# Altium integrated library DS1021-1X7SF162-B.IntLib: 1 symbol
Pins are listed as number, name and electrical type; pins without a type are passive.

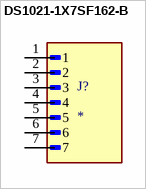
[diagram p0: symbol DS1021-1X7SF162-B]

## DS1021-1X7SF162-B
designator J?
Pin header; pin strips; male; PIN: 7; straight; 2.54mm; THT; 1x7; MF: Connfly; MP: DS1021-1X7SF162-B; SnapEDA_Link: https://www.snapeda.com/parts/DS1021-1X7SF162-B/Connfly/view-part/?ref=snap; Package: None; Value: *; Check_prices: https://www.snapeda.com/parts/DS1021-1X7SF162-B/Connfly/view-part/?ref=eda
footprint CONNFLY_DS1021-1X7SF162-B
pins: 1, 2, 3, 4, 5, 6, 7